# Altium footprint library relay.PcbLib: 32 footprints (part 2 of 2)
Each footprint in its own frame and in the unit in brackets; x right, y up, seen from the top. Pads: shape width x height; smd on the part's side, far side on the other; paste and mask are expansions set on the pad; w line width, h text height; cw(c..) or ccw(c..) is an arc to the next point about the centre after c.
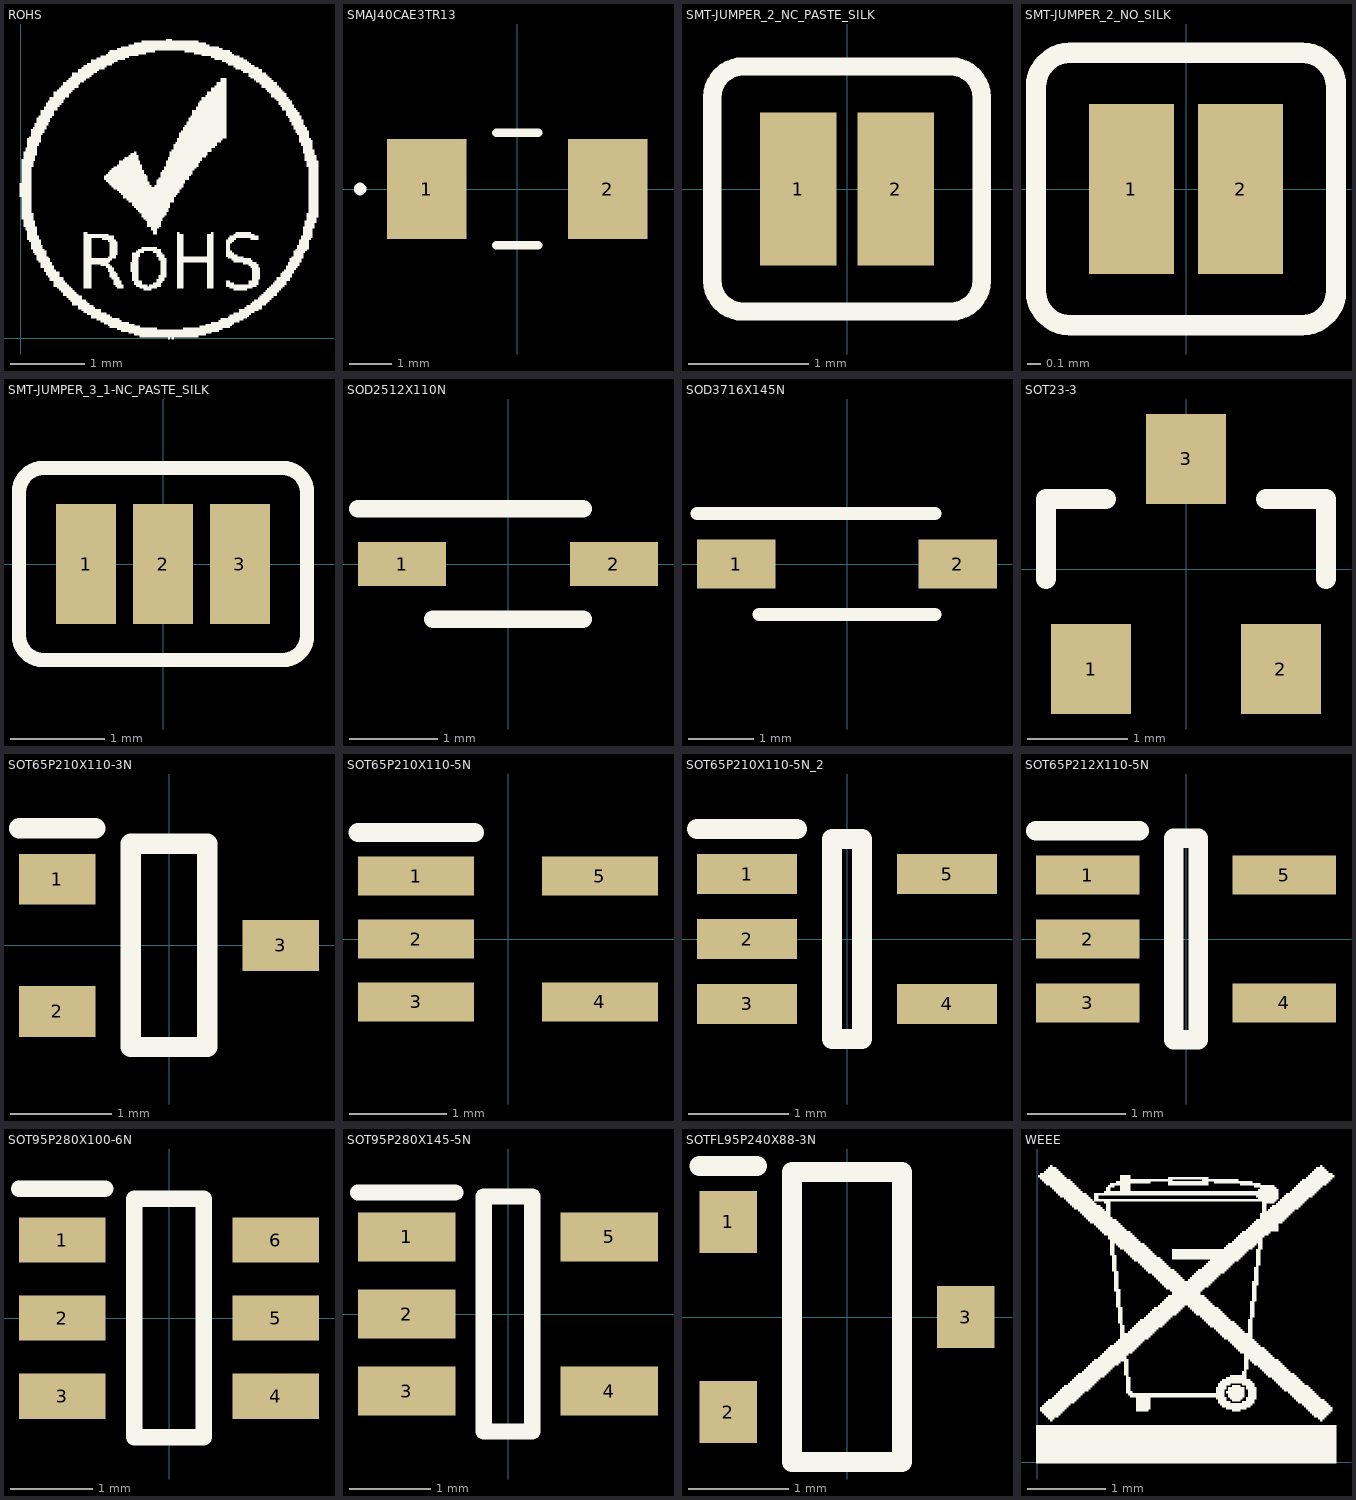
[diagram p1: the footprints below, top view; thin cyan lines are the x and y axes]

## ROHS [mm] "ROHS"
Top Overlay:
  drawing of 599 lines, arcs and shapes, not listed

## SMAJ40CAE3TR13 [mm] "SMAJ40CAE3TR13"
pads (2):
  rect 1.9x2.39 smd: 1(-2.16,0) 2(2.16,0)
Top Overlay:
  lines w0.2: -0.5,-1.34 0.5,-1.34 ; -0.5,1.34 0.5,1.34 ; -3.8,0 ccw(c-3.75,0) -3.7,0 ; -3.8,0 cw(c-3.75,0) -3.7,0 ; -3.8,0 ccw(c-3.75,0) -3.7,0
3D body "Diode SMA.stp": height 2.41, standoff 0, extent -2.65,-1.47 2.63,1.45

## SMT-JUMPER_2_NC_PASTE_SILK [mil] "SMT-JUMPER_2_NC_PASTE_SILK"
pads (2):
  rect 25x50 smd paste+0: 1(-16,0) 2(16,0)
Top Overlay:
  lines w6: -44,-30 ccw(c-34,-30) -34,-40 34,-40 ccw(c34,-30) 44,-30 44,30 ccw(c34,30) 34,40 -34,40 ccw(c-34,30) -44,30 -44,-30
Top Paste:
  region: -49,-44 -49,44 49,44 49,-44

## SMT-JUMPER_2_NO_SILK [mil] "SMT-JUMPER_2_NO_SILK"
pads (2):
  rect 25x50 smd paste+0: 1(-16,0) 2(16,0)
Top Overlay:
  lines w6: -44,-30 ccw(c-34,-30) -34,-40 34,-40 ccw(c34,-30) 44,-30 44,30 ccw(c34,30) 34,40 -34,40 ccw(c-34,30) -44,30 -44,-30

## SMT-JUMPER_3_1-NC_PASTE_SILK [mil] "SMT-JUMPER_3_1-NC_PASTE_SILK"
pads (3):
  rect 25x50 smd paste+0: 1(-32,0) 2(0,0) 3(32,0)
Top Overlay:
  lines w6: -60,-30 ccw(c-50,-30) -50,-40 50,-40 ccw(c50,-30) 60,-30 60,30 ccw(c50,30) 50,40 -50,40 ccw(c-50,30) -60,30 -60,-30
Top Paste:
  region: -16,-44 -16,44 65,44 65,-44

## SOD2512X110N [mm] "SOD2512X110N"
pads (2):
  rect 1x0.5 smd: 1(-1.2,0) 2(1.2,0)
Top Overlay:
  lines w0.2: -1.7,0.625 0.85,0.625 ; -0.85,-0.625 0.85,-0.625
3D body "SOD-323.STEP": height 1.16, standoff 0.01, extent -1.35,-0.723 1.35,0.723

## SOD3716X145N [mm] "SOD3716X145N"
pads (2):
  rect 1.2x0.75 smd: 1(-1.7,0) 2(1.7,0)
Top Overlay:
  lines w0.2: -2.3,0.775 1.35,0.775 ; -1.35,-0.775 1.35,-0.775
3D body "SOD123_DIO.step": height 0.81, standoff 0, extent -1.925,-0.675 1.925,0.675

## SOT23-3 [mil] "SOT23-3"
pads (3):
  rect 31.5x35.43 smd: 1(-37.4,-39.37) 2(37.4,-39.37) 3(0,43.31)
Top Overlay:
  lines w8: -55.12,-3.94 -55.12,27.56 -31.5,27.56 ; 31.5,27.56 55.12,27.56 55.12,-3.94
3D body "SOT23-3.stp": height 47.44, standoff 0.8, extent -59.05,-55.81 59.06,55.82

## SOT65P210X110-3N [mm] "SOT65P210X110-3N"
pads (3):
  rect 0.75x0.5 smd: 1(-1.1,0.65) 2(-1.1,-0.65) 3(1.1,0)
Top Overlay:
  lines w0.2: -1.475,1.15 -0.725,1.15 ; -0.375,-1 0.375,-1 0.375,1 -0.375,1 -0.375,-1
3D body "SC-70.stp": height 1.1, standoff 0, extent -1.2,-1.125 1.2,1.075

## SOT65P210X110-5N [mm] "SOT65P210X110-5N"
pads (5):
  rect 1.2x0.4 smd: 1(-0.95,0.65) 2(-0.95,0) 3(-0.95,-0.65) 4(0.95,-0.65) 5(0.95,0.65)
Top Overlay:
  lines w0.2: -1.55,1.1 -0.35,1.1
3D body "sc705_model.STEP": height 0.96, standoff 0.01, extent -1.025,-1 1.075,1

## SOT65P210X110-5N_2 [mm]
pads (5):
  rect 1x0.4 smd: 1(-1,0.65) 2(-1,0) 3(-1,-0.65) 4(1,-0.65) 5(1,0.65)
Top Overlay:
  lines w0.2: -1.5,1.1 -0.5,1.1 ; -0.15,-1 -0.15,1 0.15,1 0.15,-1 -0.15,-1
3D body "sc705_model.STEP": height 0.96, standoff 0.01, extent -1.025,-1 1.075,1

## SOT65P212X110-5N [mm] "SOT65P212X110-5N"
pads (5):
  rect 1.05x0.4 smd: 1(-1,0.65) 2(-1,0) 3(-1,-0.65) 4(1,-0.65) 5(1,0.65)
Top Overlay:
  lines w0.2: -1.525,1.1 -0.475,1.1 ; -0.125,-1.025 -0.125,1.025 0.125,1.025 0.125,-1.025 -0.125,-1.025
3D body "sc705_model.STEP": height 0.96, standoff 0.01, extent -1.025,-1 1.075,1

## SOT95P280X100-6N [mm] "SOT95P280X100-6N"
pads (6):
  rect 1.05x0.55 smd: 1(-1.3,0.95) 2(-1.3,0) 3(-1.3,-0.95) 4(1.3,-0.95) 5(1.3,0) 6(1.3,0.95)
Top Overlay:
  lines w0.2: -1.825,1.575 -0.775,1.575 ; -0.425,-1.45 -0.425,1.45 0.425,1.45 0.425,-1.45 -0.425,-1.45
3D body "SOT23-6.stp": height 1.11, standoff -0.07, extent -1.423,-1.496 1.412,1.504

## SOT95P280X145-5N [mm] "SOT95P280X145-5N"
pads (5):
  rect 1.2x0.6 smd: 1(-1.25,0.95) 2(-1.25,0) 3(-1.25,-0.95) 4(1.25,-0.95) 5(1.25,0.95)
Top Overlay:
  lines w0.2: -1.85,1.5 -0.65,1.5 ; -0.3,-1.45 -0.3,1.45 0.3,1.45 0.3,-1.45 -0.3,-1.45
3D body "SOT-23-5.stp": height 1.18, standoff 0.01, extent -1.4,-1.488 1.4,1.5

## SOTFL95P240X88-3N [mm] "SOTFL95P240X88-3N"
pads (3):
  rect 0.575x0.62 smd: 1(-1.188,0.95) 2(-1.188,-0.95) 3(1.188,0)
Top Overlay:
  lines w0.2: -1.475,1.51 -0.9,1.51 ; -0.55,-1.45 -0.55,1.45 0.55,1.45 0.55,-1.45 -0.55,-1.45
3D body "SOT23-3.stp": height 1.11, standoff -0.07, extent -1.418,-1.5 1.418,1.5

## WEEE [mm] "WEEE"
Top Overlay:
  drawing of 457 lines, arcs and shapes, not listed